# Altium footprint library RF_Inductors.PcbLib: 13 footprints
Each footprint in its own frame and in the unit in brackets; x right, y up, seen from the top. Pads: shape width x height; smd on the part's side, far side on the other; paste and mask are expansions set on the pad; w line width, h text height; cw(c..) or ccw(c..) is an arc to the next point about the centre after c.
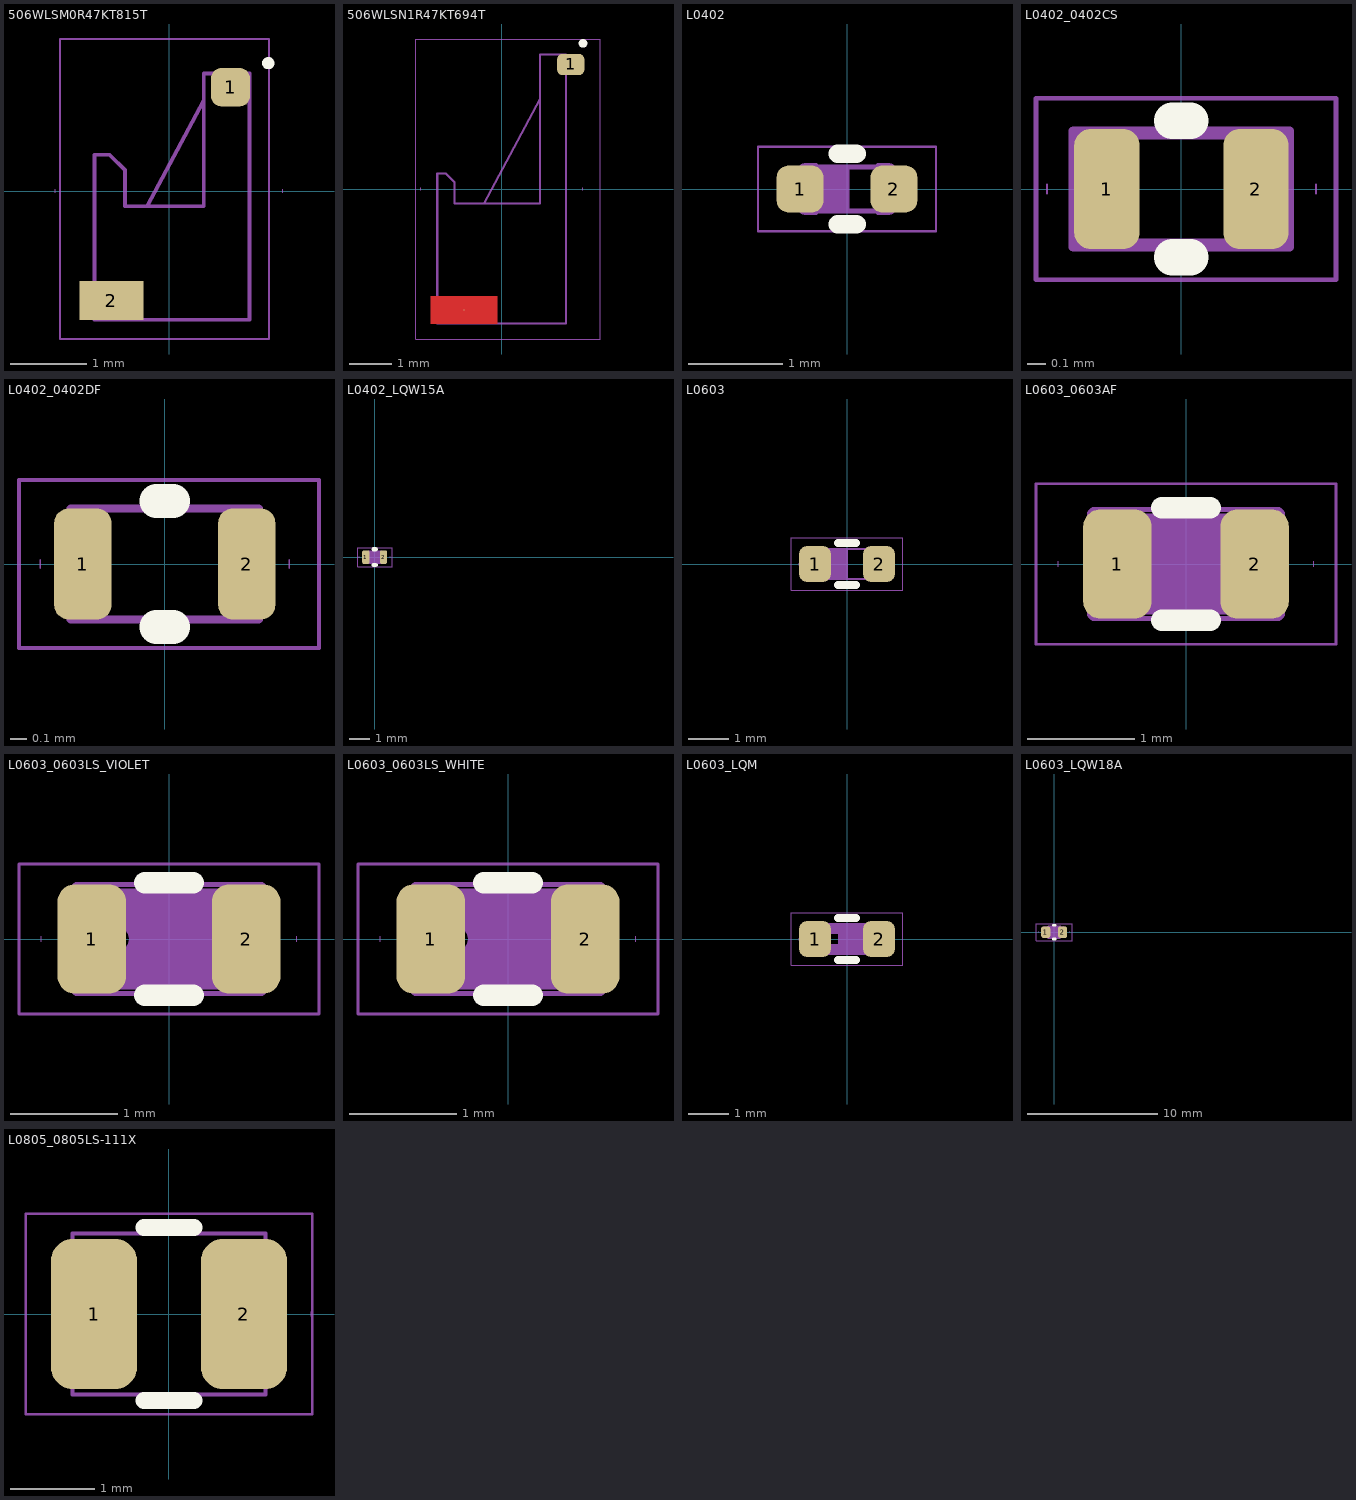
[diagram p0: the footprints below, top view; thin cyan lines are the x and y axes]

## 506WLSM0R47KT815T [mm] "High Frequency Ultra-Broadband Inductor"
pads (2):
  rrect50% 0.508x0.5 smd mask+0.1: 1(0.806,1.36)
  rect 0.838x0.508 smd mask+0.1: 2(-0.756,-1.434)
Top Overlay:
  circle w0.1: c1.3,1.675 r0.03
Top Courtyard:
  lines w0.025: -1.425,-1.938 1.31,-1.938 1.31,1.991 -1.425,1.991 -1.425,-1.938
Top Assembly:
  lines w0.01: -1.49,-0.025 -1.49,0.025 ; 1.49,-0.025 1.49,0.025
  lines w0.05: -0.284,-0.195 0.454,1.184 ; -0.977,-1.685 1.055,-1.685 1.055,1.541 0.455,1.541 0.455,-0.2 -0.577,-0.2 -0.577,0.275 -0.777,0.475 -0.977,0.475 -0.977,-1.685
  text ".Designator" at -2.252,0.474 h1
3D body "Катушка 506WLSM0R47KT815T.STEP": height 2.67, standoff 0, extent -0.977,-1.685 1.055,1.541

## 506WLSN1R47KT694T [mil] "High Frequency Ultra-Broadband Inductor"
pads (2):
  rrect50% 25x19.68 smd mask+3.94: 1(63.52,114.39)
  round 1 smd mask+3.94: 2(-34.47,-111.12)
Top Layer:
  region: -64.96,-123.62 -3.98,-123.62 -3.98,-98.62 -64.96,-98.62
Top Overlay:
  circle w5.51: c74.8,133.86 r1.18
Top Courtyard:
  lines w0.98: -78.74,-137.8 -78.74,137.8 78.74,137.8 90.55,137.8 90.55,90.55 90.55,-137.8 -78.74,-137.8
Top Assembly:
  lines w0.39: -74.41,-0.98 -74.41,0.98 ; 74.41,-0.98 74.41,0.98
  lines w1.97: -15.97,-13.39 35.43,82.62 ; 59.06,115.27 60.35,122.47 59.06,122.92 ; -59.06,-123.62 -59.06,14.17 -51.18,14.17 -43.31,6.3 -43.31,-13.39 35.43,-13.39 35.43,123.62 59.06,123.62 59.06,-123.62 -59.06,-123.62
  text ".Designator" at -88.67,18.66 h39.37
3D body "Катушка ATC506WLSN1R47KT694T.STEP": height 118.11, standoff -1.29, extent -64.96,-123.62 64.96,123.62

## L0402 [mm] "RF inductor 0402"
height 0.5
pads (2):
  rrect50% 0.5x0.5 smd mask+0.08: 1(-0.5,0) 2(0.5,0)
Top Overlay:
  lines w0.2: -0.1,-0.375 0.1,-0.375 ; -0.1,0.375 0.1,0.375
Top Courtyard:
  lines w0.025: -0.95,-0.45 0.95,-0.45 0.95,0.45 -0.95,0.45 -0.95,-0.45
Top Assembly:
  lines w0.01: -0.74,-0.025 -0.74,0.025 ; 0.74,-0.025 0.74,0.025
  lines w0.05: -0.337,-0.235 0.337,-0.235 ; -0.337,0.235 0.337,0.235 ; -0.332,-0.25 -0.45,-0.25 cw(c-0.45,-0.2) -0.5,-0.2 -0.5,0.2 cw(c-0.45,0.2) -0.45,0.25 -0.332,0.25 ; -0.332,-0.2 ccw(c-0.95,0) -0.332,0.2 ; -0.3,-0.235 -0.3,0.235 ; -0.25,-0.235 -0.25,0.235 ; -0.2,-0.235 -0.2,0.235 ; -0.15,-0.235 -0.15,0.235 ; -0.1,-0.235 -0.1,0.235 ; -0.05,-0.235 -0.05,0.235 ; 0,-0.235 0,0.235 ; 0.332,-0.25 0.45,-0.25 ccw(c0.45,-0.2) 0.5,-0.2 0.5,0.2 ccw(c0.45,0.2) 0.45,0.25 0.332,0.25 ; 0.332,-0.2 cw(c0.95,0) 0.332,0.2
  text ".Designator" at -2.252,0.474 h1
3D body "L0402.x_t": height 0.5, standoff 0, extent -0.5,-0.25 0.5,0.25

## L0402_0402CS [mm] "RF inductor 0402"
height 0.66
pads (2):
  rrect50% 0.36x0.66 smd mask+0.05: 1(-0.41,0) 2(0.41,0)
Top Overlay:
  lines w0.2: -0.05,-0.375 0.05,-0.375 ; -0.05,0.375 0.05,0.375
Top Courtyard:
  lines w0.025: -0.8,-0.5 -0.8,0.5 0.85,0.5 0.85,-0.5 -0.8,-0.5
Top Assembly:
  lines w0.01: -0.74,-0.025 -0.74,0.025 ; 0.74,-0.025 0.74,0.025
  lines w0.05: -0.595,-0.32 -0.573,-0.298 ; -0.595,-0.32 -0.595,0.32 ; -0.595,-0.32 0.595,-0.32 ; -0.595,0.32 -0.573,0.298 ; -0.595,0.32 0.595,0.32 ; -0.573,-0.298 -0.573,0.298 ; -0.573,-0.298 0.573,-0.298 ; -0.573,0.298 0.573,0.298 ; 0.573,-0.298 0.573,0.298 ; 0.573,-0.298 0.595,-0.32 ; 0.573,0.298 0.595,0.32 ; 0.595,-0.32 0.595,0.32
  text ".Designator" at -2.252,0.474 h1
3D body "0402CS.x_t": height 0.66, standoff 0, extent -0.595,-0.32 0.595,0.32

## L0402_0402DF [mm] "RF inductor 0402"
height 0.66
pads (2):
  rrect50% 0.34x0.66 smd mask+0.05: 1(-0.487,0) 2(0.487,0)
Top Overlay:
  lines w0.2: -0.05,-0.375 0.05,-0.375 ; -0.05,0.375 0.05,0.375
Top Courtyard:
  lines w0.025: -0.867,-0.5 0.917,-0.5 0.917,0.5 -0.867,0.5 -0.867,-0.5
Top Assembly:
  lines w0.01: -0.74,-0.025 -0.74,0.025 ; 0.74,-0.025 0.74,0.025
  lines w0.05: -0.559,-0.33 0.559,-0.33 0.559,0.33 -0.559,0.33 -0.559,-0.33
  text ".Designator" at -2.252,0.474 h1
3D body "0402DF.STEP": height 0.66, standoff 0, extent -0.559,-0.33 0.559,0.33

## L0402_LQW15A [mm] "RF inductor 0402"
height 0.5
pads (2):
  rrect50% 0.35x0.65 smd mask+0.08: 1(-0.425,0) 2(0.425,0)
Top Overlay:
  lines w0.2: -0.05,-0.375 0.05,-0.375 ; -0.05,0.375 0.05,0.375
Top Courtyard:
  lines w0.025: -0.8,-0.45 0.85,-0.45 0.85,0.45 -0.8,0.45 -0.8,-0.45
Top Assembly:
  drawing of 1481 lines, arcs and shapes, not listed
  text ".Designator" at -2.252,0.474 h1
3D body "LQW15.x_t": height 0.5, standoff 0, extent -0.5,-0.288 0.5,0.288

## L0603 [mm] "RF Inductor 0603"
height 0.8
pads (2):
  rrect50% 0.8x0.9 smd: 1(-0.8,0) 2(0.8,0)
Top Overlay:
  lines w0.2: -0.225,-0.525 0.225,-0.525 ; -0.225,0.525 0.225,0.525
Top Courtyard:
  lines w0.025: -1.4,-0.65 1.4,-0.65 1.4,0.65 -1.4,0.65 -1.4,-0.65
Top Assembly:
  lines w0.01: -1.19,-0.025 -1.19,0.025 ; 1.19,-0.025 1.19,0.025
  lines w0.05: -0.54,-0.38 0.54,-0.38 ; -0.54,0.38 0.54,0.38 ; -0.538,-0.4 -0.75,-0.4 cw(c-0.75,-0.35) -0.8,-0.35 -0.8,0.35 cw(c-0.75,0.35) -0.75,0.4 -0.538,0.4 ; -0.538,-0.35 ccw(c-2.125,0) -0.538,0.35 ; -0.5,-0.38 -0.5,0.38 ; -0.45,-0.38 -0.45,0.38 ; -0.4,-0.38 -0.4,0.38 ; -0.35,-0.38 -0.35,0.38 ; -0.3,-0.38 -0.3,0.38 ; -0.25,-0.38 -0.25,0.38 ; -0.2,-0.38 -0.2,0.38 ; -0.15,-0.38 -0.15,0.38 ; -0.1,-0.38 -0.1,0.38 ; -0.05,-0.38 -0.05,0.38 ; 0,-0.38 0,0.38 ; 0.538,-0.4 0.75,-0.4 ccw(c0.75,-0.35) 0.8,-0.35 0.8,0.35 ccw(c0.75,0.35) 0.75,0.4 0.538,0.4 ; 0.538,-0.35 cw(c2.125,0) 0.538,0.35
  text ".Designator" at -2.252,0.774 h1
3D body "L0603.x_t": height 0.8, standoff 0, extent -0.8,-0.4 0.8,0.4

## L0603_0603AF [mm] "RF Inductor Coircraft 0603AF series"
height 0.91
pads (2):
  rrect50% 0.64x1.02 smd: 1(-0.64,0) 2(0.64,0)
Top Overlay:
  lines w0.2: -0.225,-0.525 0.225,-0.525 ; -0.225,0.525 0.225,0.525
Top Courtyard:
  lines w0.025: -1.4,-0.75 1.4,-0.75 1.4,0.75 -1.4,0.75 -1.4,-0.75
Top Assembly:
  circle w0.05: c-0.5,0 r0.15
  lines w0.01: -1.19,-0.025 -1.19,0.025 ; 1.19,-0.025 1.19,0.025
  lines w0.05: -0.9,-0.458 -0.9,0.458 cw(c-0.85,0.458) -0.85,0.508 0.85,0.508 cw(c0.85,0.458) 0.9,0.458 ; -0.9,-0.458 ccw(c-0.85,-0.458) -0.85,-0.508 0.85,-0.508 ccw(c0.85,-0.458) 0.9,-0.458 0.9,0.458 ; -0.8,-0.447 -0.8,0.447 ; -0.75,-0.447 -0.75,0.447 ; -0.7,-0.447 -0.7,0.447 ; -0.65,-0.447 -0.65,0 -0.65,0.447 ; -0.6,-0.447 -0.6,-0.12 ; -0.6,0.12 -0.6,0.447 ; -0.55,-0.447 -0.55,-0.15 ; -0.55,0.15 -0.55,0.447 ; -0.5,-0.447 -0.5,-0.16 ; -0.5,0.16 -0.5,0.447 ; -0.45,-0.447 -0.45,-0.15 ; -0.45,0.15 -0.45,0.447 ; -0.4,-0.447 -0.4,-0.12 ; -0.4,0.12 -0.4,0.447 ; -0.35,-0.447 -0.35,0.447 ; -0.3,-0.447 -0.3,0.447 ; -0.25,-0.447 -0.25,0.447 ; -0.2,-0.447 -0.2,0.447 ; -0.15,-0.447 -0.15,0.447 ; -0.1,-0.447 -0.1,0.447 ; -0.05,-0.447 -0.05,0.447 ; 0,-0.447 0,0.447 ; 0.05,-0.447 0.05,0.447 ; 0.1,-0.447 0.1,0.447 ; 0.15,-0.447 0.15,0.447 ; 0.2,-0.447 0.2,0.447 ; 0.25,-0.447 0.25,0.447 ; 0.3,-0.447 0.3,0.447 ; 0.35,-0.447 0.35,0.447 ; 0.4,-0.447 0.4,0.447 ; 0.45,-0.447 0.45,0.447 ; 0.5,-0.447 0.5,0.447 ; 0.55,-0.447 0.55,0.447 ; 0.6,-0.447 0.6,0.447 ; 0.65,-0.447 0.65,0.447 ; 0.7,-0.447 0.7,0.447 ; 0.75,-0.447 0.75,0.447 ; 0.8,-0.447 0.8,0.447 ; -0.853,-0.4 ccw(c-0.802,-0.396) -0.803,-0.447 0.803,-0.447 ccw(c0.802,-0.396) 0.853,-0.4 0.853,0.4 ccw(c0.802,0.396) 0.803,0.447 -0.803,0.447 ccw(c-0.802,0.396) -0.853,0.4 -0.853,-0.4
  text ".Designator" at -2.252,0.774 h1
3D body "0603AF.x_t": height 0.91, standoff 0, extent -0.9,-0.56 0.9,0.56

## L0603_0603LS_VIOLET [mm] "RF Inductor Coircraft 0603LS series"
height 1.12
pads (2):
  rrect50% 0.64x1.02 smd: 1(-0.72,0) 2(0.72,0)
Top Overlay:
  lines w0.2: -0.225,-0.525 0.225,-0.525 ; -0.225,0.525 0.225,0.525
Top Courtyard:
  lines w0.025: -1.4,-0.7 -1.4,0.7 1.4,0.7 1.4,-0.7 -1.4,-0.7
Top Assembly:
  circle w0.05: c-0.5,0 r0.15
  lines w0.01: -1.19,-0.025 -1.19,0.025 ; 1.19,-0.025 1.19,0.025
  lines w0.05: -0.9,-0.458 -0.9,0.458 cw(c-0.85,0.458) -0.85,0.508 0.85,0.508 cw(c0.85,0.458) 0.9,0.458 ; -0.9,-0.458 ccw(c-0.85,-0.458) -0.85,-0.508 0.85,-0.508 ccw(c0.85,-0.458) 0.9,-0.458 0.9,0.458 ; -0.8,-0.447 -0.8,0.447 ; -0.75,-0.447 -0.75,0.447 ; -0.7,-0.447 -0.7,0.447 ; -0.65,-0.447 -0.65,0 -0.65,0.447 ; -0.6,-0.447 -0.6,-0.12 ; -0.6,0.12 -0.6,0.447 ; -0.55,-0.447 -0.55,-0.15 ; -0.55,0.15 -0.55,0.447 ; -0.5,-0.447 -0.5,-0.16 ; -0.5,0.16 -0.5,0.447 ; -0.45,-0.447 -0.45,-0.15 ; -0.45,0.15 -0.45,0.447 ; -0.4,-0.447 -0.4,-0.12 ; -0.4,0.12 -0.4,0.447 ; -0.35,-0.447 -0.35,0.447 ; -0.3,-0.447 -0.3,0.447 ; -0.25,-0.447 -0.25,0.447 ; -0.2,-0.447 -0.2,0.447 ; -0.15,-0.447 -0.15,0.447 ; -0.1,-0.447 -0.1,0.447 ; -0.05,-0.447 -0.05,0.447 ; 0,-0.447 0,0.447 ; 0.05,-0.447 0.05,0.447 ; 0.1,-0.447 0.1,0.447 ; 0.15,-0.447 0.15,0.447 ; 0.2,-0.447 0.2,0.447 ; 0.25,-0.447 0.25,0.447 ; 0.3,-0.447 0.3,0.447 ; 0.35,-0.447 0.35,0.447 ; 0.4,-0.447 0.4,0.447 ; 0.45,-0.447 0.45,0.447 ; 0.5,-0.447 0.5,0.447 ; 0.55,-0.447 0.55,0.447 ; 0.6,-0.447 0.6,0.447 ; 0.65,-0.447 0.65,0.447 ; 0.7,-0.447 0.7,0.447 ; 0.75,-0.447 0.75,0.447 ; 0.8,-0.447 0.8,0.447 ; -0.853,-0.4 ccw(c-0.802,-0.396) -0.803,-0.447 0.803,-0.447 ccw(c0.802,-0.396) 0.853,-0.4 0.853,0.4 ccw(c0.802,0.396) 0.803,0.447 -0.803,0.447 ccw(c-0.802,0.396) -0.853,0.4 -0.853,-0.4
  text ".Designator" at -2.252,0.774 h1
3D body "0603LS_VIOLET_DOT.x_t": height 1.12, standoff 0, extent -0.9,-0.508 0.9,0.508

## L0603_0603LS_WHITE [mm] "RF Inductor Coircraft 0603LS series"
height 1.12
pads (2):
  rrect50% 0.64x1.02 smd: 1(-0.72,0) 2(0.72,0)
Top Overlay:
  lines w0.2: -0.225,-0.525 0.225,-0.525 ; -0.225,0.525 0.225,0.525
Top Courtyard:
  lines w0.025: -1.4,-0.7 -1.4,0.7 1.4,0.7 1.4,-0.7 -1.4,-0.7
Top Assembly:
  circle w0.05: c-0.5,0 r0.15
  lines w0.01: -1.19,-0.025 -1.19,0.025 ; 1.19,-0.025 1.19,0.025
  lines w0.05: -0.9,-0.458 -0.9,0.458 cw(c-0.85,0.458) -0.85,0.508 0.85,0.508 cw(c0.85,0.458) 0.9,0.458 ; -0.9,-0.458 ccw(c-0.85,-0.458) -0.85,-0.508 0.85,-0.508 ccw(c0.85,-0.458) 0.9,-0.458 0.9,0.458 ; -0.8,-0.447 -0.8,0.447 ; -0.75,-0.447 -0.75,0.447 ; -0.7,-0.447 -0.7,0.447 ; -0.65,-0.447 -0.65,0 -0.65,0.447 ; -0.6,-0.447 -0.6,-0.12 ; -0.6,0.12 -0.6,0.447 ; -0.55,-0.447 -0.55,-0.15 ; -0.55,0.15 -0.55,0.447 ; -0.5,-0.447 -0.5,-0.16 ; -0.5,0.16 -0.5,0.447 ; -0.45,-0.447 -0.45,-0.15 ; -0.45,0.15 -0.45,0.447 ; -0.4,-0.447 -0.4,-0.12 ; -0.4,0.12 -0.4,0.447 ; -0.35,-0.447 -0.35,0.447 ; -0.3,-0.447 -0.3,0.447 ; -0.25,-0.447 -0.25,0.447 ; -0.2,-0.447 -0.2,0.447 ; -0.15,-0.447 -0.15,0.447 ; -0.1,-0.447 -0.1,0.447 ; -0.05,-0.447 -0.05,0.447 ; 0,-0.447 0,0.447 ; 0.05,-0.447 0.05,0.447 ; 0.1,-0.447 0.1,0.447 ; 0.15,-0.447 0.15,0.447 ; 0.2,-0.447 0.2,0.447 ; 0.25,-0.447 0.25,0.447 ; 0.3,-0.447 0.3,0.447 ; 0.35,-0.447 0.35,0.447 ; 0.4,-0.447 0.4,0.447 ; 0.45,-0.447 0.45,0.447 ; 0.5,-0.447 0.5,0.447 ; 0.55,-0.447 0.55,0.447 ; 0.6,-0.447 0.6,0.447 ; 0.65,-0.447 0.65,0.447 ; 0.7,-0.447 0.7,0.447 ; 0.75,-0.447 0.75,0.447 ; 0.8,-0.447 0.8,0.447 ; -0.853,-0.4 ccw(c-0.802,-0.396) -0.803,-0.447 0.803,-0.447 ccw(c0.802,-0.396) 0.853,-0.4 0.853,0.4 ccw(c0.802,0.396) 0.803,0.447 -0.803,0.447 ccw(c-0.802,0.396) -0.853,0.4 -0.853,-0.4
  text ".Designator" at -2.252,0.774 h1
3D body "0603LS_WHITE_DOT.x_t": height 1.12, standoff 0, extent -0.9,-0.508 0.9,0.508

## L0603_LQM [mm] "RF Inductor 0603"
height 0.8
pads (2):
  rrect50% 0.8x0.9 smd: 1(-0.8,0) 2(0.8,0)
Top Overlay:
  lines w0.2: -0.225,-0.525 0.225,-0.525 ; -0.225,0.525 0.225,0.525
Top Courtyard:
  lines w0.025: -1.4,-0.65 -1.4,0.65 1.4,0.65 1.4,-0.65 -1.4,-0.65
Top Assembly:
  lines w0.01: -1.19,-0.025 -1.19,0.025 ; 1.19,-0.025 1.19,0.025
  lines w0.05: -0.54,-0.38 0.54,-0.38 ; -0.54,0.38 0.54,0.38 ; -0.538,-0.4 -0.75,-0.4 cw(c-0.75,-0.35) -0.8,-0.35 -0.8,0.35 cw(c-0.75,0.35) -0.75,0.4 -0.538,0.4 ; -0.538,-0.35 ccw(c-2.125,0) -0.538,0.35 ; -0.5,-0.37 -0.5,-0.15 -0.2,-0.15 ; -0.5,0.37 -0.5,0.15 -0.2,0.15 ; -0.45,-0.37 -0.45,-0.15 ; -0.45,0.15 -0.45,0.37 ; -0.4,-0.37 -0.4,-0.15 ; -0.4,0.15 -0.4,0.37 ; -0.35,-0.37 -0.35,-0.15 ; -0.35,0.15 -0.35,0.37 ; -0.3,-0.37 -0.3,-0.15 ; -0.3,0.15 -0.3,0.37 ; -0.25,-0.37 -0.25,-0.15 ; -0.25,0.15 -0.25,0.37 ; -0.2,-0.37 -0.2,-0.15 ; -0.2,0.37 -0.2,0.15 ; -0.15,-0.38 -0.15,0.38 ; -0.1,-0.38 -0.1,0.38 ; -0.05,-0.38 -0.05,0.38 ; 0,-0.38 0,0.38 ; 0.05,-0.38 0.05,0.38 ; 0.1,-0.38 0.1,0.38 ; 0.15,-0.38 0.15,0.38 ; 0.2,-0.38 0.2,0.38 ; 0.25,-0.38 0.25,0.38 ; 0.3,-0.38 0.3,0.38 ; 0.35,-0.38 0.35,0.38 ; 0.4,-0.38 0.4,0.38 ; 0.45,-0.38 0.45,0.38 ; 0.5,-0.38 0.5,0.38 ; 0.538,-0.4 0.75,-0.4 ccw(c0.75,-0.35) 0.8,-0.35 0.8,0.35 ccw(c0.75,0.35) 0.75,0.4 0.538,0.4 ; 0.538,-0.35 cw(c2.125,0) 0.538,0.35 ; -0.2,-0.15 -0.2,0.15
  text ".Designator" at -2.252,0.774 h1
3D body "L0603_LQM18.x_t": height 0.8, standoff 0, extent -0.8,-0.4 0.8,0.4

## L0603_LQW18A [mm] "RF Inductor 0603"
height 0.8
pads (2):
  rrect50% 0.7x0.9 smd: 1(-0.65,0) 2(0.65,0)
Top Overlay:
  lines w0.2: -0.075,-0.525 0.075,-0.525 ; -0.075,0.525 0.075,0.525
Top Courtyard:
  lines w0.025: -1.4,-0.65 -1.4,0.65 1.4,0.65 1.4,-0.65 -1.4,-0.65
Top Assembly:
  drawing of 1481 lines, arcs and shapes, not listed
  text ".Designator" at -2.252,0.774 h1
3D body "LQW18A.x_t": height 0.8, standoff 0, extent -0.8,-0.438 0.8,0.438

## L0805_0805LS-111X [mm]
pads (2):
  rrect50% 1.02x1.78 smd mask+0.1: 1(-0.89,0) 2(0.89,0)
Top Overlay:
  lines w0.2: -0.3,-1.025 0.3,-1.025 ; -0.3,1.025 0.3,1.025
Top Courtyard:
  lines w0.025: -1.7,-1.19 1.7,-1.19 1.7,1.19 -1.7,1.19 -1.7,-1.19
Top Assembly:
  circle w0.1: c-0.89,0 r0.045
  lines w0.01: -1.69,-0.025 -1.69,0.025 ; 1.69,-0.025 1.69,0.025
  lines w0.05: -1.145,-0.955 1.145,-0.955 1.145,0.955 -1.145,0.955 -1.145,-0.955
  text ".Designator" at -2.252,0.474 h1
3D body "0805LS.step.x_t": height 1.59, standoff -0.01, extent -1.145,-0.955 1.145,0.955